# Altium schematic symbol library MDM-25PBSP.SchLib: 1 symbol
Pins are listed as number, name and electrical type; pins without a type are passive.

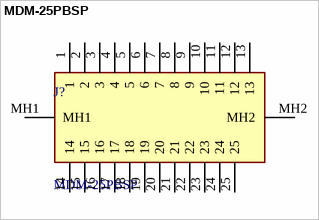
[diagram p0: symbol MDM-25PBSP]

## MDM-25PBSP
designator J?
D-Sub Micro-D Connectors MICRO 25 M PC JACKP; Manufacturer_Name: ITT CANNON; Geometry.Height: 13.74mm; Mouser Part Number: 965-MDM-25PBSP; Mouser Price/Stock: https://www.mouser.co.uk/ProductDetail/ITT-Cannon/MDM-25PBSP?qs=%2FPVulymFwT3mrCwbZuIR5w%3D%3D; Manufacturer_Part_Number: MDM-25PBSP; Datasheet Link: https://ittcannon.canto.com/direct/document/863c6k08rd7hd54715eqt9le2o/tZR72R4vbF_tKN-i-3jkBf1AQkY/original?content-type=application%2Fpdf&name=ITT-Cannon-Microminiature-Connectors-Catalog.pdf
footprint MDM25PBSP
pins: 1, 2, 3, 4, 5, 6, 7, 8, 9, 10, 11, 12, 13, 14, 15, 16, 17, 18, 19, 20, 21, 22, 23, 24, 25, MH1, MH2